# Altium footprint library wqfn_30_p50_600x400x80_l55x25_t460x220.PcbLib: 1 footprints
Each footprint in its own frame and in the unit in brackets; x right, y up, seen from the top. Pads: shape width x height; smd on the part's side, far side on the other; paste and mask are expansions set on the pad; w line width, h text height; cw(c..) or ccw(c..) is an arc to the next point about the centre after c.
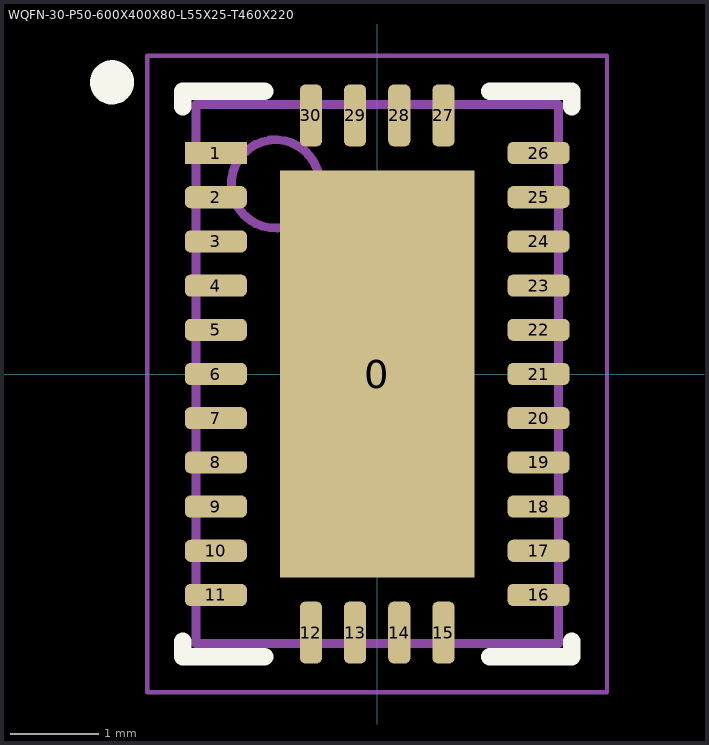
[diagram p0: the footprint, top view; thin cyan lines are the x and y axes]

## WQFN-30-P50-600X400X80-L55X25-T460X220 [mm] "WQFN, 30-Leads, Body 6,00x4,00mm, Pitch 0,50mm, Thermal Pad 4,60x2,20mm, IPC Medium Density"
height 0.8
pads (31):
  rect 2.2x4.6 smd: 0(0,0)
  rect 0.7x0.25 smd: 1(-1.825,2.5)
  rrect50% 0.7x0.25 smd: 2(-1.825,2) 3(-1.825,1.5) 4(-1.825,1) 5(-1.825,0.5) 6(-1.825,0) 7(-1.825,-0.5) 8(-1.825,-1) 9(-1.825,-1.5) 10(-1.825,-2) 11(-1.825,-2.5) 16(1.825,-2.5) 17(1.825,-2) 18(1.825,-1.5) 19(1.825,-1) 20(1.825,-0.5) 21(1.825,0) 22(1.825,0.5) 23(1.825,1) 24(1.825,1.5) 25(1.825,2) 26(1.825,2.5)
  rrect50% 0.25x0.7 smd: 12(-0.75,-2.925) 13(-0.25,-2.925) 14(0.25,-2.925) 15(0.75,-2.925) 27(0.75,2.925) 28(0.25,2.925) 29(-0.25,2.925) 30(-0.75,2.925)
Top Overlay:
  circle w0.25: c-3,3.3 r0.125
  lines w0.2: -2.2,-3.025 -2.2,-3.2 -1.275,-3.2 ; -2.2,3.025 -2.2,3.2 -1.275,3.2 ; 1.275,-3.2 2.2,-3.2 2.2,-3.025 ; 1.275,3.2 2.2,3.2 2.2,3.025
Top Comment:
  text ".Comment" at 0.6,3.8 h1.2
Top Designator:
  text ".Designator" at -0.4,3.8 h1.2
Top Component Outline:
  circle w0.1: c-1.15,2.15 r0.5
  lines w0.1: -2.05,-3.05 -2.05,3.05 2.05,3.05 2.05,-3.05 -2.05,-3.05
Top Courtyard:
  lines w0.05: -2.6,-3.6 -2.6,3.6 2.6,3.6 2.6,-3.6 -2.6,-3.6
  lines w0.1: -0.5,0 0.5,0 ; 0,-0.5 0,0.5
3D body "WQFN-30.STEP": height 0.8, standoff 0, extent -2,-3 2,3